# Altium footprint library PASSIVE_SMD.PCBLIB: 249 footprints (part 11 of 16)
Each footprint in its own frame and in the unit in brackets; x right, y up, seen from the top. Pads: shape width x height; smd on the part's side, far side on the other; paste and mask are expansions set on the pad; w line width, h text height; cw(c..) or ccw(c..) is an arc to the next point about the centre after c.
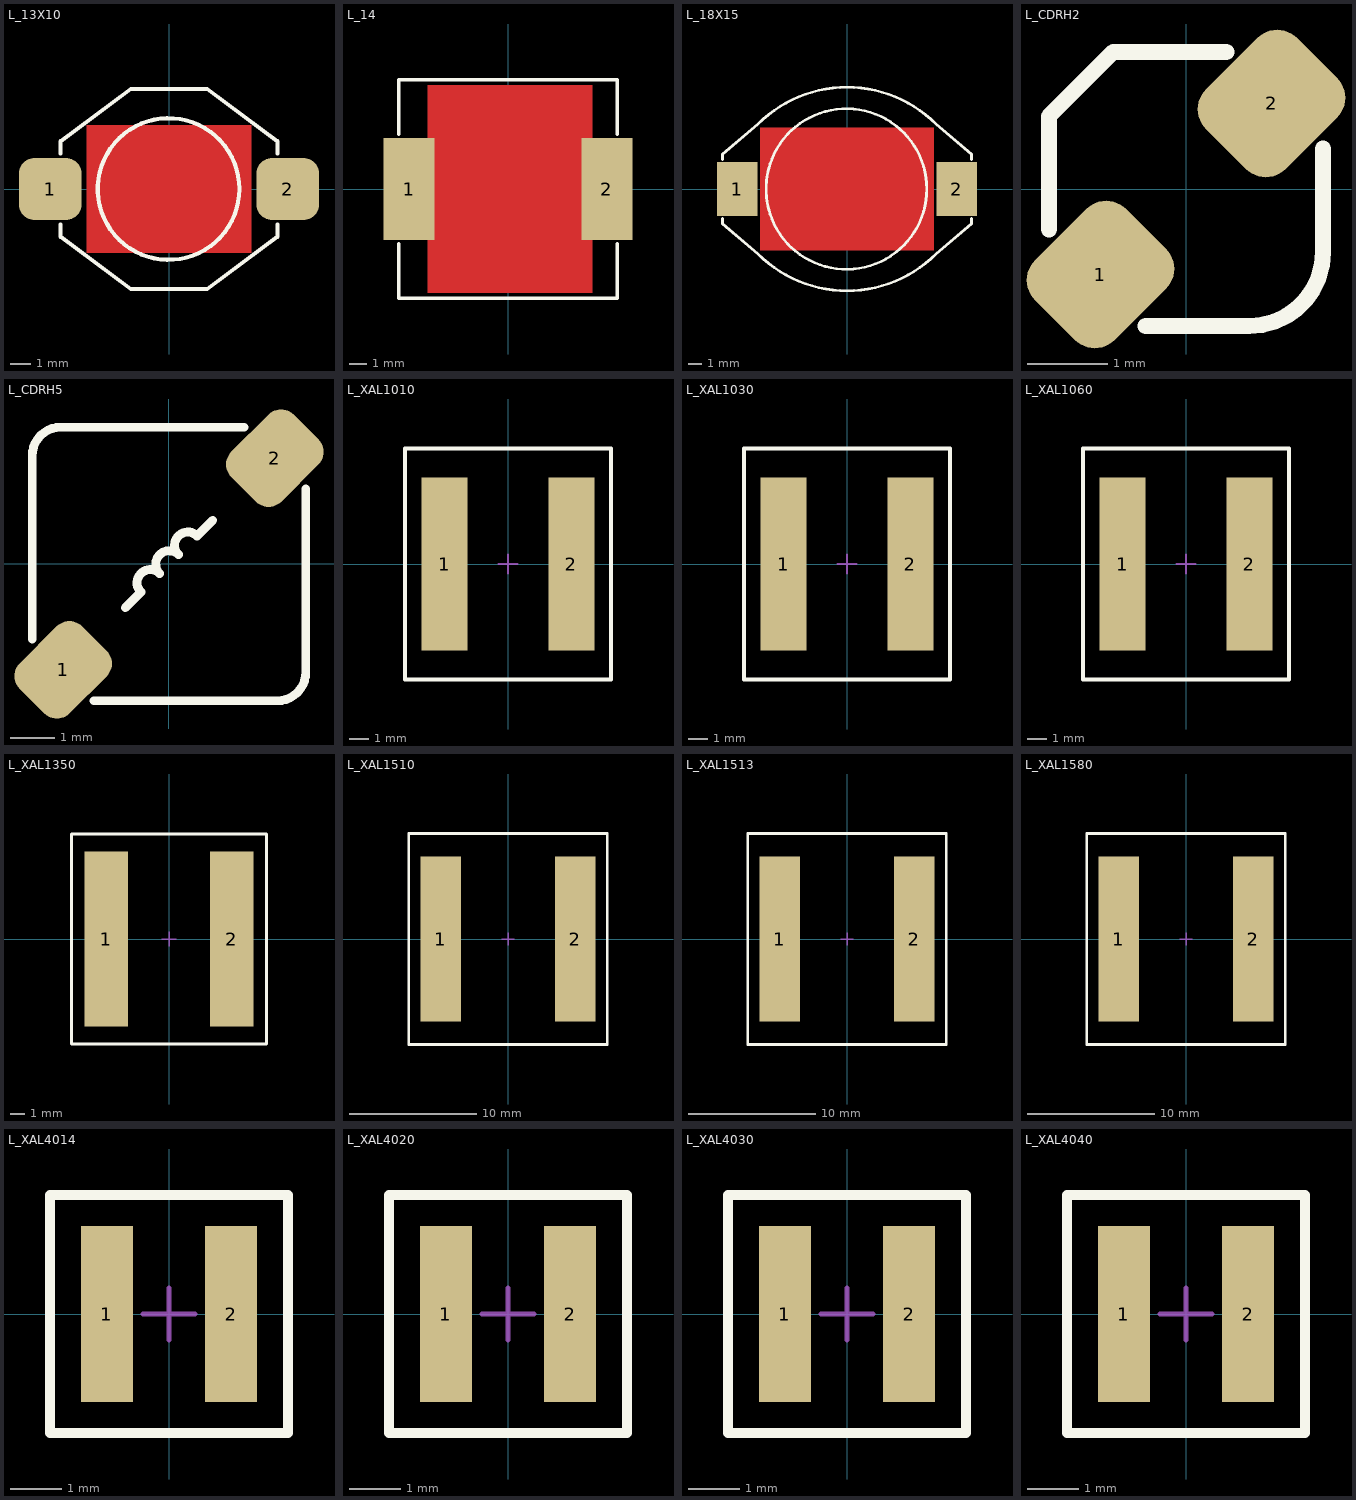
[diagram p10: the footprints below, top view; thin cyan lines are the x and y axes]

## L_13X10 [mm] "INDUCTOR, 13X9.5mm, 12.7X10mm"
pads (2):
  rrect50% 3x3 smd paste-0.2: 1(-5.7,0) 2(5.7,0)
Top Layer:
  pour cut-out: 3.937,3.048 -3.937,3.048 -3.937,-3.048 3.937,-3.048
Top Overlay:
  circle w0.2: c-0.021,0 r3.4
  lines w0.2: -5.2,-1.7 -5.2,-2.293 -1.832,-4.8 1.832,-4.8 5.2,-2.293 5.2,-1.7 ; -5.2,1.7 -5.2,2.293 -1.832,4.8 1.832,4.8 5.2,2.293 5.2,1.7
3D body "Pulse Inductor RR.STEP": height 4.38, standoff 0, extent -6.487,-4.699 6.482,4.699

## L_14 [mm] "INDUCTOR, 13.5x12.5mm, DR125, CDRH127, D128C 931AS"
height 7
pads (2):
  rect 3x6 smd paste-4: 1(-5.8,0) 2(5.8,0)
Top Layer:
  pour cut-out: -4.699,6.096 4.953,6.096 4.953,-6.096 -4.699,-6.096
Top Overlay:
  lines w0.2: -6.4,-3.2 -6.4,-6.4 6.4,-6.4 6.4,-3.2 ; -6.4,3.2 -6.4,6.4 6.4,6.4 6.4,3.2
Top Paste:
  region: 6.9,2.7 4.5,2.7 4.5,0.2 6.9,0.2
  region: 6.9,-0.2 4.5,-0.2 4.5,-2.7 6.9,-2.7
  rectangle: -6.9,-2.7 -4.5,-0.2
  rectangle: -6.9,0.2 -4.5,2.7
3D body "User Library-SRP1270_2RMR.step": height 7, standoff 0, extent -6.85,-6.847 6.85,6.847

## L_18X15 [mm] "INDUCTOR, 18.5X15.24mm"
pads (2):
  rect 3x4 smd paste-0.3: 1(-8.2,0) 2(8.2,0)
Top Layer:
  pour cut-out: 6.477,4.572 6.477,-4.572 -6.477,-4.572 -6.477,4.572
Top Overlay:
  circle w0.2: c-0.044,0 r6
  lines w0.2: -9.3,-2.2 -9.3,-2.593 -6.647,-4.847 ccw(c0,1.8) 6.647,-4.847 9.3,-2.593 9.3,-2.2 ; -9.3,2.2 -9.3,2.593 -6.647,4.847 cw(c0,-1.8) 6.647,4.847 9.3,2.593 9.3,2.2
3D body: height 2, standoff 0, extent -9.2,0 9.2,7.5
3D body: height 2, standoff 0, extent -9.2,-1.1 -7,1.1
3D body: height 2, standoff 0, extent 7,-1.1 9.2,1.1
3D body: height 2, standoff 0, extent -9.2,-7.5 9.2,0
3D body: height 7.2, standoff 0, extent -6,-5.998 6,5.999

## L_CDRH2 [mm] "CDRH2D18, 3.2x3.2x2.0mm"
pads (2):
  rrect50% 1.4x1.6 smd rot 135 paste-0.1: 1(-1.061,-1.061) 2(1.061,1.061)
Top Overlay:
  lines w0.2: -1.7,-0.5 -1.7,0.9 -0.9,1.7 0.5,1.7 ; -0.5,-1.7 0.784,-1.7 ccw(c0.784,-0.784) 1.7,-0.784 1.7,0.5
3D body "User Library-CDRH2D18-1.step": height 2.05, standoff 0, extent -1.6,-1.6 1.6,1.6

## L_CDRH5 [mm] "INDUCTOR, 6X6X2mm, CDRH5D18"
height 1.8
pads (2):
  rrect50% 1.6x2 smd rot 135 paste-0.1 mask+0.1: 1(-2.4,-2.4) 2(2.4,2.4)
Top Overlay:
  lines w0.2: -3.1,-1.7 -3.1,2.455 cw(c-2.455,2.455) -2.455,3.1 1.7,3.1 ; -1.7,-3.1 2.455,-3.1 ccw(c2.455,-2.455) 3.1,-2.455 3.1,1.7 ; -0.99,-0.99 -0.636,-0.636 cw(c-0.424,-0.424) -0.212,-0.212 cw(c0,0) 0.212,0.212 cw(c0.424,0.424) 0.636,0.636 0.99,0.99
3D body "User Library-CDRH5D18.STEP": height 2, standoff 0, extent -3,-3 3,3.005

## L_XAL1010 [mm] "Inductor, XAL1010, 10.50x11.3x10mm"
height 10
pads (2):
  rect 2.4x9 smd paste-5: 1(-3.3,0) 2(3.3,0)
Top Overlay:
  lines w0.2: -5.35,-6 -5.35,6 5.35,6 5.35,-6 -5.35,-6
Top Paste:
  rectangle: -4.3,0.2 -2.3,4.2
  rectangle: -4.3,-4.2 -2.3,-0.2
  region: 4.3,-0.2 2.3,-0.2 2.3,-4.2 4.3,-4.2
  region: 4.3,4.2 2.3,4.2 2.3,0.2 4.3,0.2
Mechanical 13:
  lines w0.1: -0.5,0 0.5,0 ; 0,-0.5 0,0.5
3D body "Coilcraft-XAL1010.step": height 10, standoff 0, extent -5.25,-5.9 5.25,5.9

## L_XAL1030 [mm] "Inductor, XAL1030, 10.50x11.3x3.1mm"
height 3.1
pads (2):
  rect 2.4x9 smd paste-5: 1(-3.3,0) 2(3.3,0)
Top Overlay:
  lines w0.2: -5.35,-6 -5.35,6 5.35,6 5.35,-6 -5.35,-6
Top Paste:
  rectangle: -4.3,-4.2 -2.3,-0.2
  rectangle: -4.3,0.2 -2.3,4.2
  region: 4.3,-0.2 2.3,-0.2 2.3,-4.2 4.3,-4.2
  region: 4.3,4.2 2.3,4.2 2.3,0.2 4.3,0.2
Mechanical 13:
  lines w0.1: -0.5,0 0.5,0 ; 0,-0.5 0,0.5
3D body "Coilcraft-XAL1030.step": height 3.1, standoff 0, extent -5.25,-5.9 5.25,5.9

## L_XAL1060 [mm] "Inductor, XAL1060, 10.50x11.3x6.0mm"
height 6
pads (2):
  rect 2.4x9 smd paste-5: 1(-3.3,0) 2(3.3,0)
Top Overlay:
  lines w0.2: -5.35,-6 5.35,-6 5.35,6 -5.35,6 -5.35,-6
Top Paste:
  region: 4.3,-0.2 2.3,-0.2 2.3,-4.2 4.3,-4.2
  region: 4.3,4.2 2.3,4.2 2.3,0.2 4.3,0.2
  rectangle: -4.3,-4.2 -2.3,-0.2
  rectangle: -4.3,0.2 -2.3,4.2
Mechanical 13:
  lines w0.1: -0.5,0 0.5,0 ; 0,-0.5 0,0.5
3D body "Coilcraft-XAL1060.step": height 6, standoff 0, extent -5.25,-5.9 5.25,5.9

## L_XAL1350 [mm] "Inductor, XAL1350, 13x14x5mm"
height 3.1
pads (2):
  rect 3x12 smd paste-6: 1(-4.3,0) 2(4.3,0)
Top Overlay:
  lines w0.2: -6.7,-7.2 -6.7,7.2 6.7,7.2 6.7,-7.2 -6.7,-7.2
Top Paste:
  rectangle: -5.6,0.2 -3,2.8
  rectangle: -5.6,3.2 -3,5.8
  rectangle: -5.6,-5.8 -3,-3.2
  rectangle: -5.6,-2.8 -3,-0.2
  region: 5.6,-0.2 3,-0.2 3,-2.8 5.6,-2.8
  region: 5.6,-3.2 3,-3.2 3,-5.8 5.6,-5.8
  region: 5.6,5.8 3,5.8 3,3.2 5.6,3.2
  region: 5.6,2.8 3,2.8 3,0.2 5.6,0.2
Mechanical 13:
  lines w0.1: -0.5,0 0.5,0 ; 0,-0.5 0,0.5
3D body "Coilcraft-XAL1350.step": height 5, standoff 0, extent -6.6,-7.1 6.6,7.1

## L_XAL1510 [mm] "Inductor, XAL1510, 15.2x16.2x11mm"
height 11
pads (2):
  rect 3.2x13 smd paste-7: 1(-5.3,0) 2(5.3,0)
Top Overlay:
  lines w0.2: -7.8,-8.3 -7.8,8.3 7.8,8.3 7.8,-8.3 -7.8,-8.3
Top Paste:
  rectangle: -6.6,-2.8 -4,-0.2
  rectangle: -6.6,-5.8 -4,-3.2
  rectangle: -6.6,3.2 -4,5.8
  rectangle: -6.6,0.2 -4,2.8
  region: 6.6,2.8 4,2.8 4,0.2 6.6,0.2
  region: 6.6,5.8 4,5.8 4,3.2 6.6,3.2
  region: 6.6,-3.2 4,-3.2 4,-5.8 6.6,-5.8
  region: 6.6,-0.2 4,-0.2 4,-2.8 6.6,-2.8
Mechanical 13:
  lines w0.1: -0.5,0 0.5,0 ; 0,-0.5 0,0.5
3D body "Coilcraft-XAL1510-153.step": height 10, standoff 0, extent -7.7,-8.2 7.7,8.2

## L_XAL1513 [mm] "Inductor, XAL1513, 15.2x16.2x13mm"
height 13
pads (2):
  rect 3.2x13 smd paste-7: 1(-5.3,0) 2(5.3,0)
Top Overlay:
  lines w0.2: -7.8,-8.3 7.8,-8.3 7.8,8.3 -7.8,8.3 -7.8,-8.3
Top Paste:
  rectangle: -6.6,-2.8 -4,-0.2
  rectangle: -6.6,-5.8 -4,-3.2
  rectangle: -6.6,3.2 -4,5.8
  rectangle: -6.6,0.2 -4,2.8
  region: 6.6,-0.2 4,-0.2 4,-2.8 6.6,-2.8
  region: 6.6,-3.2 4,-3.2 4,-5.8 6.6,-5.8
  region: 6.6,5.8 4,5.8 4,3.2 6.6,3.2
  region: 6.6,2.8 4,2.8 4,0.2 6.6,0.2
Mechanical 13:
  lines w0.1: -0.5,0 0.5,0 ; 0,-0.5 0,0.5
3D body "Coilcraft-XAL1513-153.step": height 13.2, standoff 0.2, extent -7.7,-8.2 7.7,8.2

## L_XAL1580 [mm] "Inductor, XAL1580, 15.2x16.2x8.2mm"
height 8.2
pads (2):
  rect 3.2x13 smd paste-7: 1(-5.3,0) 2(5.3,0)
Top Overlay:
  lines w0.2: -7.8,-8.3 -7.8,8.3 7.8,8.3 7.8,-8.3 -7.8,-8.3
Top Paste:
  region: 6.6,-0.2 4,-0.2 4,-2.8 6.6,-2.8
  region: 6.6,-3.2 4,-3.2 4,-5.8 6.6,-5.8
  region: 6.6,5.8 4,5.8 4,3.2 6.6,3.2
  region: 6.6,2.8 4,2.8 4,0.2 6.6,0.2
  rectangle: -6.6,-2.8 -4,-0.2
  rectangle: -6.6,-5.8 -4,-3.2
  rectangle: -6.6,3.2 -4,5.8
  rectangle: -6.6,0.2 -4,2.8
Mechanical 13:
  lines w0.1: -0.5,0 0.5,0 ; 0,-0.5 0,0.5
3D body "Coilcraft-XAL1580-102.step": height 8.2, standoff 0, extent -7.7,-8.2 7.7,8.2

## L_XAL4014 [mm] "Inductor, XAL4014, 4.0x4.0x1.4mm"
height 1.4
pads (2):
  rect 1x3.4 smd paste-0.1: 1(-1.2,0) 2(1.2,0)
Top Overlay:
  lines w0.2: -2.3,-2.3 2.3,-2.3 2.3,2.3 -2.3,2.3 -2.3,-2.3
Mechanical 13:
  lines w0.1: -0.5,0 0.5,0 ; 0,-0.5 0,0.5
3D body "Coilcraft-XAL4014.step": height 1.4, standoff 0, extent -2.15,-2.15 2.15,2.15

## L_XAL4020 [mm] "Inductor, XAL4020, 4.0x4.0x2.1mm"
height 2.1
pads (2):
  rect 1x3.4 smd paste-0.1: 1(-1.2,0) 2(1.2,0)
Top Overlay:
  lines w0.2: -2.3,-2.3 2.3,-2.3 2.3,2.3 -2.3,2.3 -2.3,-2.3
Mechanical 13:
  lines w0.1: -0.5,0 0.5,0 ; 0,-0.5 0,0.5
3D body "Coilcraft-XAL4020.step": height 2.1, standoff 0, extent -2.15,-2.15 2.15,2.15

## L_XAL4030 [mm] "Inductor, XAL4030, 4.0x4.0x3.1mm"
height 3.1
pads (2):
  rect 1x3.4 smd paste-0.1: 1(-1.2,0) 2(1.2,0)
Top Overlay:
  lines w0.2: -2.3,-2.3 2.3,-2.3 2.3,2.3 -2.3,2.3 -2.3,-2.3
Mechanical 13:
  lines w0.1: -0.5,0 0.5,0 ; 0,-0.5 0,0.5
3D body "Coilcraft-XAL4030.step": height 3.1, standoff 0, extent -2.15,-2.15 2.15,2.15

## L_XAL4040 [mm] "Inductor, XAL4030, 4.0x4.0x4.1mm"
height 4.1
pads (2):
  rect 1x3.4 smd paste-0.1: 1(-1.2,0) 2(1.2,0)
Top Overlay:
  lines w0.2: -2.3,-2.3 2.3,-2.3 2.3,2.3 -2.3,2.3 -2.3,-2.3
Mechanical 13:
  lines w0.1: -0.5,0 0.5,0 ; 0,-0.5 0,0.5
3D body "Coilcraft-XAL4040.step": height 4.1, standoff 0, extent -2.15,-2.15 2.15,2.15